# Altium schematic symbol library DIODE.SchLib: 6 symbols
Pins are listed as number, name and electrical type; pins without a type are passive.

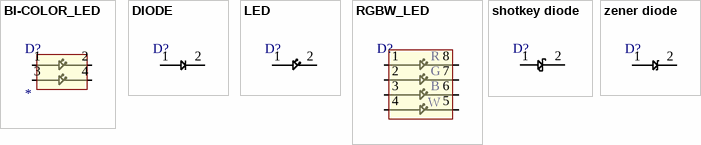
[diagram p0: symbols BI-COLOR_LED to zener diode]

## BI-COLOR_LED
designator D?
type: *
footprint 4_0606_BICOLOR_LED
pins: 1, 2, 3, 4

## DIODE
designator D?  (value not drawn)
footprint SOD123 (1N4148W)
footprint SOD-323 (2)
pins: 1, 2

## LED
designator D?  (value not drawn)
footprint LED 2835 (GW JTLMS 1 GWH4 XX51 1)
pins: 1, 2

## RGBW_LED
designator D?  (value not drawn)
RGBW, If 100 mA, Vf 2.1V - 3.1V, 1.1mm/5mm; type: *
footprint RBGW_PLCC-8_ CLQ6B-TKW-S1L1R1H1TBB7935DD3 (RGBW, If 100 mA, Vf 2.1V - 3.1V, 1.1mm/5mm)
pins: 1, 2, 3, 4, 5, 6, 7, 8
text: R; G; B; W

## shotkey diode
designator D?  (value not drawn)
footprint SOD123 (1N4148W)
footprint SOD-323 (2)
pins: 1, 2

## zener diode
designator D?  (value not drawn)
type: *
footprint DO-214AA (1SMB5931H)
pins: 1, 2